# EAGLE library part MAX889 (library maxim)
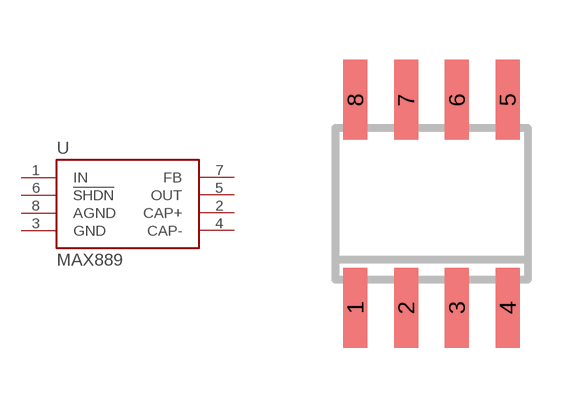
[diagram p1: symbol with the pads of SO-08; footprint SO-08]

Designator prefix -

## MAX889  [SO-08]
1  IN
2  CAP+
3  GND
4  CAP-
5  OUT
6  !SHDN
7  FB
8  AGND

## Footprint SO-08 (pad centres in mm)
Small Outline Narrow Plastic Gull Wing 150-mil body, package type SN
smd 0.6 x 2: 1 -1.905,-2.6; 2 -0.635,-2.6; 3 0.635,-2.6; 4 1.905,-2.6; 5 1.905,2.6; 6 0.635,2.6; 7 -0.635,2.6; 8 -1.905,2.6